# EAGLE library part EPM7096-J68 (library altera_SGQ)
EPM7064 MAX 7000 family
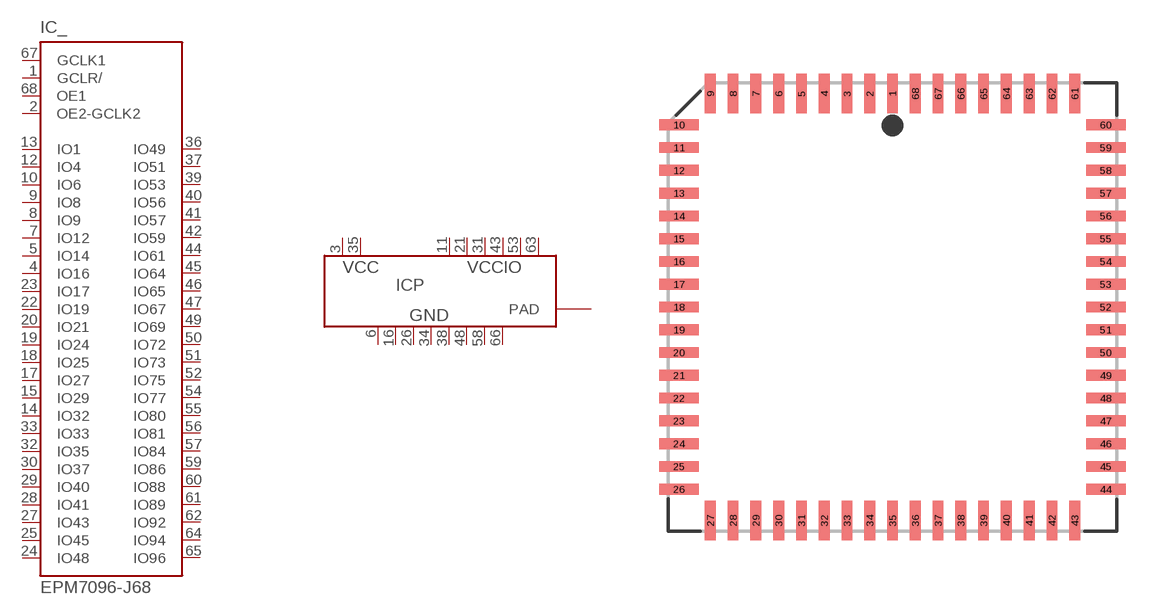
[diagram p46: symbol with the pads of PLCC68; footprint PLCC68]

Designator prefix IC; gates _=7096-68 P=PWR8-2-6

## EPM7096-J68 (MPN: EPM7096LC68-10; OC_FARNELL: unknown; OC_NEWARK: 51R9655)  [PLCC68]
1  _:GCLR/  in
2  _:OE2-GCLK2  in
3  P:VCC  pwr
4  _:IO16
5  _:IO14
6  P:GND  pwr
7  _:IO12
8  _:IO9
9  _:IO8
10  _:IO6
11  P:VCCIO  pwr
12  _:IO4
13  _:IO1
14  _:IO32
15  _:IO29
16  P:GND  pwr
17  _:IO27
18  _:IO25
19  _:IO24
20  _:IO21
21  P:VCCIO  pwr
22  _:IO19
23  _:IO17
24  _:IO48
25  _:IO45
26  P:GND  pwr
27  _:IO43
28  _:IO41
29  _:IO40
30  _:IO37
31  P:VCCIO  pwr
32  _:IO35
33  _:IO33
34  P:GND  pwr
35  P:VCC  pwr
36  _:IO49
37  _:IO51
38  P:GND  pwr
39  _:IO53
40  _:IO56
41  _:IO57
42  _:IO59
43  P:VCCIO  pwr
44  _:IO61
45  _:IO64
46  _:IO65
47  _:IO67
48  P:GND  pwr
49  _:IO69
50  _:IO72
51  _:IO73
52  _:IO75
53  P:VCCIO  pwr
54  _:IO77
55  _:IO80
56  _:IO81
57  _:IO84
58  P:GND  pwr
59  _:IO86
60  _:IO88
61  _:IO89
62  _:IO92
63  P:VCCIO  pwr
64  _:IO94
65  _:IO96
66  P:GND  pwr
67  _:GCLK1  in
68  _:OE1  in

## Footprint PLCC68 (pad centres in mm)
Plastic J-Lead Chip Carrier
smd 0.6 x 2.2: 1 0,11.9; 2 -1.27,11.9; 3 -2.54,11.9; 4 -3.81,11.9; 5 -5.08,11.9; 6 -6.35,11.9; 7 -7.62,11.9; 8 -8.89,11.9; 9 -10.16,11.9; 27 -10.16,-11.9; 28 -8.89,-11.9; 29 -7.62,-11.9; 30 -6.35,-11.9; 31 -5.08,-11.9; 32 -3.81,-11.9; 33 -2.54,-11.9; 34 -1.27,-11.9; 35 0,-11.9; 36 1.27,-11.9; 37 2.54,-11.9; 38 3.81,-11.9; 39 5.08,-11.9; 40 6.35,-11.9; 41 7.62,-11.9; 42 8.89,-11.9; 43 10.16,-11.9; 61 10.16,11.9; 62 8.89,11.9; 63 7.62,11.9; 64 6.35,11.9; 65 5.08,11.9; 66 3.81,11.9; 67 2.54,11.9; 68 1.27,11.9
smd 2.2 x 0.6: 10 -11.9,10.16; 11 -11.9,8.89; 12 -11.9,7.62; 13 -11.9,6.35; 14 -11.9,5.08; 15 -11.9,3.81; 16 -11.9,2.54; 17 -11.9,1.27; 18 -11.9,0; 19 -11.9,-1.27; 20 -11.9,-2.54; 21 -11.9,-3.81; 22 -11.9,-5.08; 23 -11.9,-6.35; 24 -11.9,-7.62; 25 -11.9,-8.89; 26 -11.9,-10.16; 44 11.9,-10.16; 45 11.9,-8.89; 46 11.9,-7.62; 47 11.9,-6.35; 48 11.9,-5.08; 49 11.9,-3.81; 50 11.9,-2.54; 51 11.9,-1.27; 52 11.9,0; 53 11.9,1.27; 54 11.9,2.54; 55 11.9,3.81; 56 11.9,5.08; 57 11.9,6.35; 58 11.9,7.62; 59 11.9,8.89; 60 11.9,10.16